# Altium schematic symbol library kmilo17pet-Maxim_Sensors.SchLib: 1172 symbols (part 43 of 61)
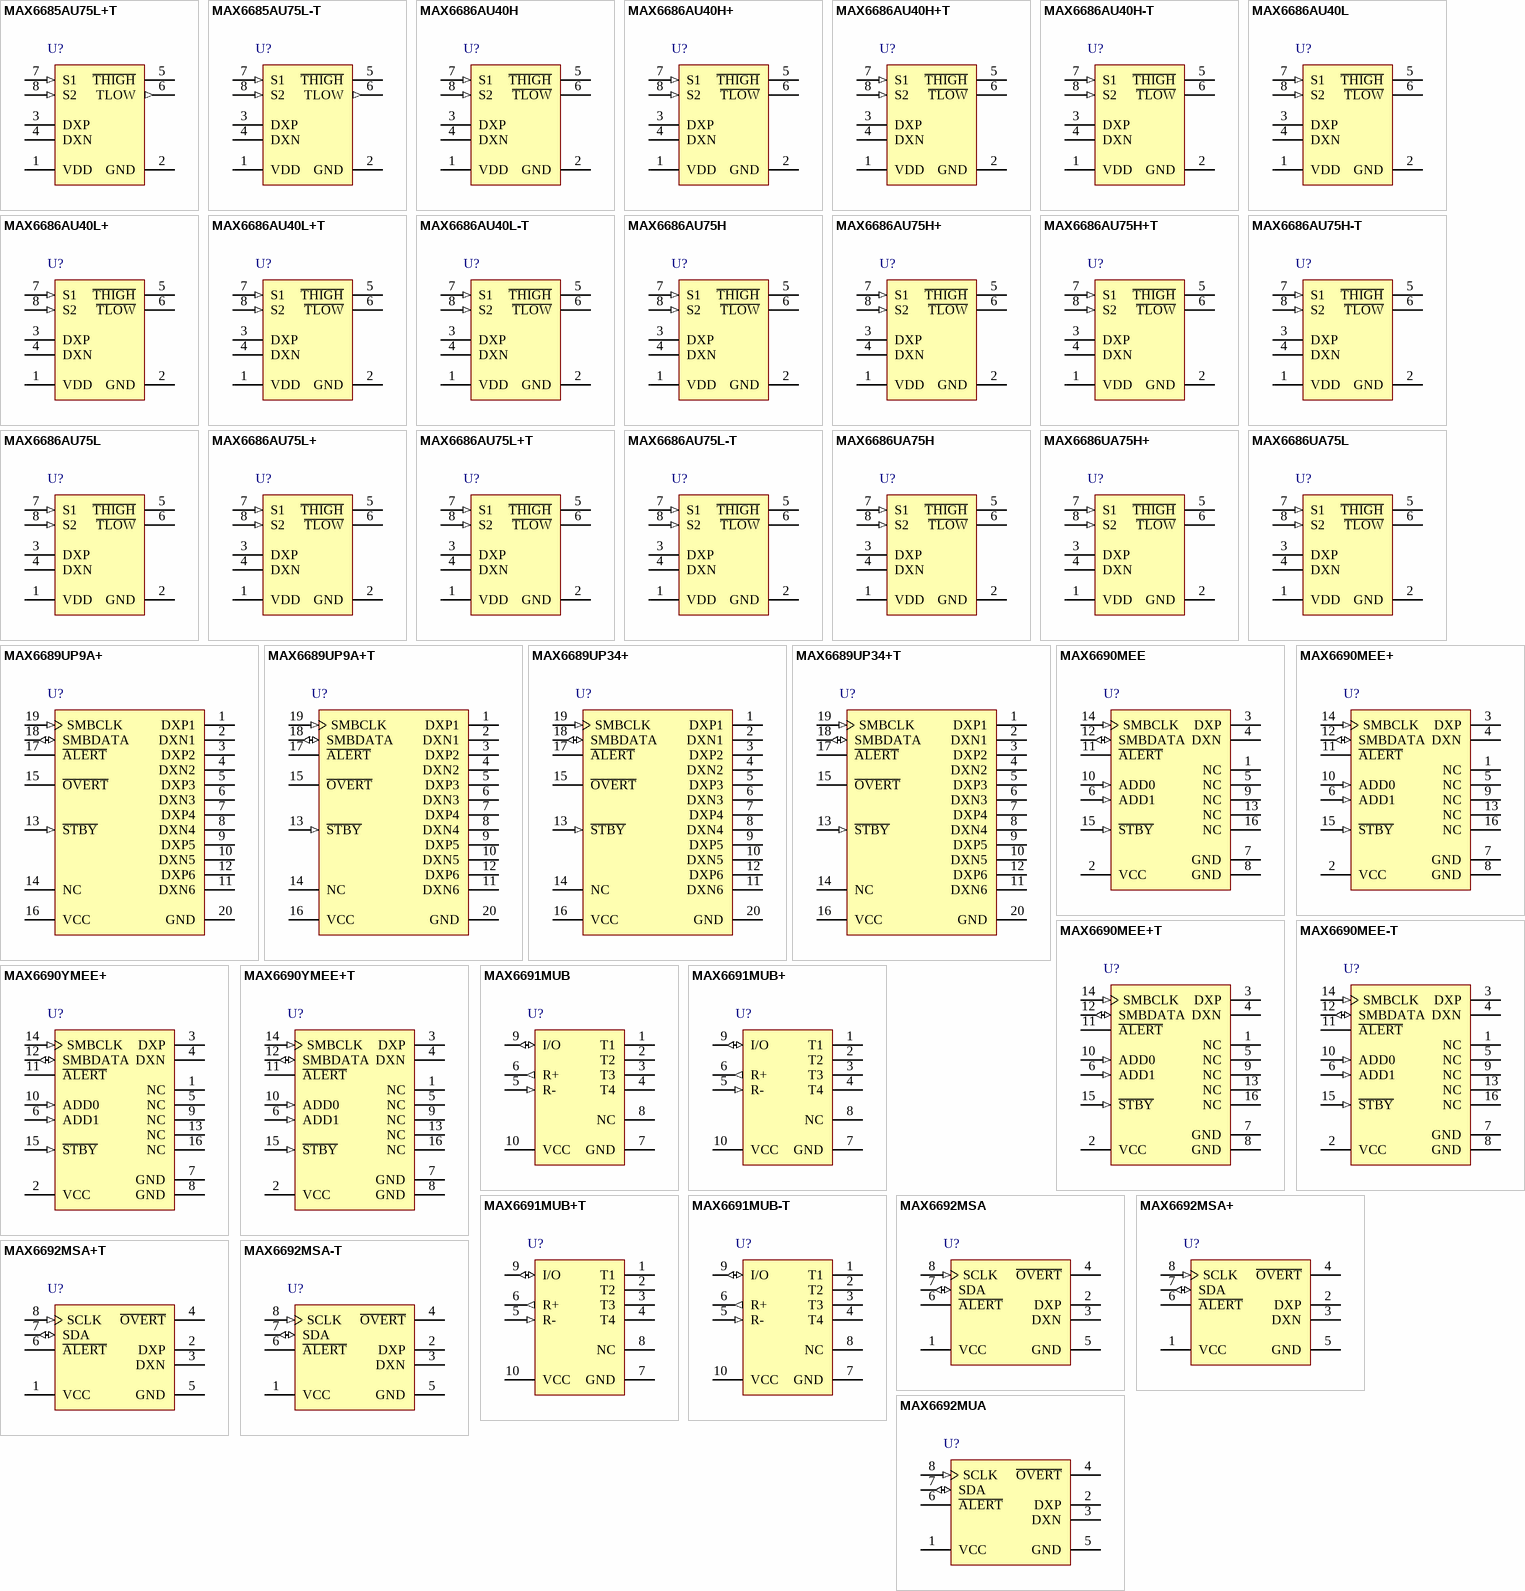
[diagram p75: symbols MAX6685AU75L+T to MAX6692MUA]

## MAX6686AU40L+T
designator U?
Dual-Output Remote-Junction Temperature Switch, -40 to 125 degC, 8-Pin SOP (U8+1), Pb-Free, Tape and Reel; Generic Part Number: MAX6686; PartNumber: MAX6686AU40L+T; Functions: Dual Output Temperature Switch; Interface: Logic; DatasheetVersion: Rev. 2; PackageVersion: Rev. L, 08/2009; PackageReference: U8+1; PackageDescription: 8-Pin Micro-MAX, Thin Shrink Small-Outline (U8+1), Body 3 x 3 mm, Pitch 0.65 mm; Supplier 1: Digi-Key; Supplier Part Number 1: MAX6686AU40L+T-ND; Supplier 2: Mouser; Supplier Part Number 2: 700-MAX6686AU40L+T; Packing: Tape and Reel; Mounting Technology: Surface Mount; Code_JEDEC: MO-187; ComponentLink1Description: Manufacturer URL; ComponentLink1URL: http://www.maximintegrated.com/; ComponentLink2Description: Datasheet; ComponentLink2URL: http://datasheets.maximintegrated.com/en/ds/MAX6686; ComponentLink3Description: Package Specification; ComponentLink3URL: http://pdfserv.maximintegrated.com/package_dwgs/21-0036.PDF
footprint MAXM-U8+1_N (SOP, 8-Leads, Body 3x3mm, Pitch 0.65mm, IPC Medium Density)
footprint MAXM-U8+1_L (SOP, 8-Leads, Body 3x3mm, Pitch 0.65mm, IPC High Density)
footprint MAXM-U8+1_M (SOP, 8-Leads, Body 3x3mm, Pitch 0.65mm, IPC Low Density)
pins: 1 VDD (power) "Power-Supply Input. Bypass to GND with a 0.1uF capacitor.", 2 GND (power) "Ground", 3 DXP "This pin connects to the positive (anode) terminal of the external P-N sense junction. It sources current into the external junction. A 2200pF capacitor should be connected across DXP and DXN.", 4 DXN "This pin connects to the negative (cathode) terminal of the external P-N sense junction. It sinks current from the external junction. A 2200pF capacitor should be connected across DXP and DXN. DXN must be connected to the (See Datasheet)", 5 ~{THIGH} (oc) "Open-Drain, Active-Low Output. T\H\I\G\H\ goes low when the temperature exceeds the factoryprogrammed upper temperature threshold, either +120degreesC or +125degreesC. Connect a pullup resistor (typically 10k ohm) between (See Datasheet)", 6 ~{TLOW} (oc) "Open-Drain, Active-Low Output. T\L\O\W\  goes LOW when the temperature exceeds the pinprogrammed lower temperature threshold. Connect a pullup resistor (typically 10k ohm) between T\L\O\W\ and a positive supply up to 5.5V", 7 S1 (in) "Threshold Select Input. Used in conjunction with S2 to set the lower threshold for TLOW (Table 1). It can be connected to VDD, GND, or left floating.", 8 S2 (in) "Threshold Select Input. Used in conjunction with S1 to set the lower threshold for TLOW (Table 1). It can be connected to VDD, GND, or left floating."

## MAX6686AU40L-T
designator U?
Dual-Output Remote-Junction Temperature Switch, -40 to 125 degC, 8-Pin SOP (U8-1), Tape and Reel; Generic Part Number: MAX6686; PartNumber: MAX6686AU40L-T; Functions: Dual Output Temperature Switch; Interface: Logic; DatasheetVersion: Rev. 2; PackageVersion: Rev. L, 08/2009; PackageReference: U8-1; PackageDescription: 8-Pin Micro-MAX, Thin Shrink Small-Outline (U8-1), Body 3 x 3 mm, Pitch 0.65mm; Supplier 1: Mouser; Supplier Part Number 1: N/A; Packing: Tape and Reel; Mounting Technology: Surface Mount; Code_JEDEC: MO-187; ComponentLink1Description: Manufacturer URL; ComponentLink1URL: http://www.maximintegrated.com/; ComponentLink2Description: Datasheet; ComponentLink2URL: http://datasheets.maximintegrated.com/en/ds/MAX6686; ComponentLink3Description: Package Specification; ComponentLink3URL: http://pdfserv.maximintegrated.com/package_dwgs/21-0036.PDF
footprint MAXM-U8-1_N (SOP, 8-Leads, Body 3x3mm, Pitch 0.65mm, IPC Medium Density)
footprint MAXM-U8-1_L (SOP, 8-Leads, Body 3x3mm, Pitch 0.65mm, IPC High Density)
footprint MAXM-U8-1_M (SOP, 8-Leads, Body 3x3mm, Pitch 0.65mm, IPC Low Density)
pins: 1 VDD (power) "Power-Supply Input. Bypass to GND with a 0.1uF capacitor.", 2 GND (power) "Ground", 3 DXP "This pin connects to the positive (anode) terminal of the external P-N sense junction. It sources current into the external junction. A 2200pF capacitor should be connected across DXP and DXN.", 4 DXN "This pin connects to the negative (cathode) terminal of the external P-N sense junction. It sinks current from the external junction. A 2200pF capacitor should be connected across DXP and DXN. DXN must be connected to the (See Datasheet)", 5 ~{THIGH} (oc) "Open-Drain, Active-Low Output. T\H\I\G\H\ goes low when the temperature exceeds the factoryprogrammed upper temperature threshold, either +120degreesC or +125degreesC. Connect a pullup resistor (typically 10k ohm) between (See Datasheet)", 6 ~{TLOW} (oc) "Open-Drain, Active-Low Output. T\L\O\W\  goes LOW when the temperature exceeds the pinprogrammed lower temperature threshold. Connect a pullup resistor (typically 10k ohm) between T\L\O\W\ and a positive supply up to 5.5V", 7 S1 (in) "Threshold Select Input. Used in conjunction with S2 to set the lower threshold for TLOW (Table 1). It can be connected to VDD, GND, or left floating.", 8 S2 (in) "Threshold Select Input. Used in conjunction with S1 to set the lower threshold for TLOW (Table 1). It can be connected to VDD, GND, or left floating."

## MAX6686AU75H
designator U?
Dual-Output Remote-Junction Temperature Switch, -40 to 125 degC, 8-Pin SOP (U8-1); Generic Part Number: MAX6686; PartNumber: MAX6686AU75H; Functions: Dual Output Temperature Switch; Interface: Logic; DatasheetVersion: Rev. 2; PackageVersion: Rev. L, 08/2009; PackageReference: U8-1; PackageDescription: 8-Pin Micro-MAX, Thin Shrink Small-Outline (U8-1), Body 3 x 3 mm, Pitch 0.65mm; Supplier 1: Mouser; Supplier Part Number 1: N/A; Mounting Technology: Surface Mount; Code_JEDEC: MO-187; ComponentLink1Description: Manufacturer URL; ComponentLink1URL: http://www.maximintegrated.com/; ComponentLink2Description: Datasheet; ComponentLink2URL: http://datasheets.maximintegrated.com/en/ds/MAX6686; ComponentLink3Description: Package Specification; ComponentLink3URL: http://pdfserv.maximintegrated.com/package_dwgs/21-0036.PDF
footprint MAXM-U8-1_N (SOP, 8-Leads, Body 3x3mm, Pitch 0.65mm, IPC Medium Density)
footprint MAXM-U8-1_L (SOP, 8-Leads, Body 3x3mm, Pitch 0.65mm, IPC High Density)
footprint MAXM-U8-1_M (SOP, 8-Leads, Body 3x3mm, Pitch 0.65mm, IPC Low Density)
pins: 1 VDD (power) "Power-Supply Input. Bypass to GND with a 0.1uF capacitor.", 2 GND (power) "Ground", 3 DXP "This pin connects to the positive (anode) terminal of the external P-N sense junction. It sources current into the external junction. A 2200pF capacitor should be connected across DXP and DXN.", 4 DXN "This pin connects to the negative (cathode) terminal of the external P-N sense junction. It sinks current from the external junction. A 2200pF capacitor should be connected across DXP and DXN. DXN must be connected to the (See Datasheet)", 5 ~{THIGH} (oc) "Open-Drain, Active-Low Output. T\H\I\G\H\ goes low when the temperature exceeds the factoryprogrammed upper temperature threshold, either +120degreesC or +125degreesC. Connect a pullup resistor (typically 10k ohm) between (See Datasheet)", 6 ~{TLOW} (oc) "Open-Drain, Active-Low Output. T\L\O\W\  goes LOW when the temperature exceeds the pinprogrammed lower temperature threshold. Connect a pullup resistor (typically 10k ohm) between T\L\O\W\ and a positive supply up to 5.5V", 7 S1 (in) "Threshold Select Input. Used in conjunction with S2 to set the lower threshold for TLOW (Table 1). It can be connected to VDD, GND, or left floating.", 8 S2 (in) "Threshold Select Input. Used in conjunction with S1 to set the lower threshold for TLOW (Table 1). It can be connected to VDD, GND, or left floating."

## MAX6686AU75H+
designator U?
Dual-Output Remote-Junction Temperature Switch, -40 to 125 degC, 8-Pin SOP (U8+1), Pb-Free; Generic Part Number: MAX6686; PartNumber: MAX6686AU75H+; Functions: Dual Output Temperature Switch; Interface: Logic; DatasheetVersion: Rev. 2; PackageVersion: Rev. L, 08/2009; PackageReference: U8+1; PackageDescription: 8-Pin Micro-MAX, Thin Shrink Small-Outline (U8+1), Body 3 x 3 mm, Pitch 0.65 mm; Supplier 1: Digi-Key; Supplier Part Number 1: MAX6686AU75H+-ND; Supplier 2: Mouser; Supplier Part Number 2: 700-MAX6686AU75H+; Mounting Technology: Surface Mount; Code_JEDEC: MO-187; ComponentLink1Description: Manufacturer URL; ComponentLink1URL: http://www.maximintegrated.com/; ComponentLink2Description: Datasheet; ComponentLink2URL: http://datasheets.maximintegrated.com/en/ds/MAX6686; ComponentLink3Description: Package Specification; ComponentLink3URL: http://pdfserv.maximintegrated.com/package_dwgs/21-0036.PDF
footprint MAXM-U8+1_N (SOP, 8-Leads, Body 3x3mm, Pitch 0.65mm, IPC Medium Density)
footprint MAXM-U8+1_L (SOP, 8-Leads, Body 3x3mm, Pitch 0.65mm, IPC High Density)
footprint MAXM-U8+1_M (SOP, 8-Leads, Body 3x3mm, Pitch 0.65mm, IPC Low Density)
pins: 1 VDD (power) "Power-Supply Input. Bypass to GND with a 0.1uF capacitor.", 2 GND (power) "Ground", 3 DXP "This pin connects to the positive (anode) terminal of the external P-N sense junction. It sources current into the external junction. A 2200pF capacitor should be connected across DXP and DXN.", 4 DXN "This pin connects to the negative (cathode) terminal of the external P-N sense junction. It sinks current from the external junction. A 2200pF capacitor should be connected across DXP and DXN. DXN must be connected to the (See Datasheet)", 5 ~{THIGH} (oc) "Open-Drain, Active-Low Output. T\H\I\G\H\ goes low when the temperature exceeds the factoryprogrammed upper temperature threshold, either +120degreesC or +125degreesC. Connect a pullup resistor (typically 10k ohm) between (See Datasheet)", 6 ~{TLOW} (oc) "Open-Drain, Active-Low Output. T\L\O\W\  goes LOW when the temperature exceeds the pinprogrammed lower temperature threshold. Connect a pullup resistor (typically 10k ohm) between T\L\O\W\ and a positive supply up to 5.5V", 7 S1 (in) "Threshold Select Input. Used in conjunction with S2 to set the lower threshold for TLOW (Table 1). It can be connected to VDD, GND, or left floating.", 8 S2 (in) "Threshold Select Input. Used in conjunction with S1 to set the lower threshold for TLOW (Table 1). It can be connected to VDD, GND, or left floating."

## MAX6686AU75H+T
designator U?
Dual-Output Remote-Junction Temperature Switch, -40 to 125 degC, 8-Pin SOP (U8+1), Pb-Free, Tape and Reel; Generic Part Number: MAX6686; PartNumber: MAX6686AU75H+T; Functions: Dual Output Temperature Switch; Interface: Logic; DatasheetVersion: Rev. 2; PackageVersion: Rev. L, 08/2009; PackageReference: U8+1; PackageDescription: 8-Pin Micro-MAX, Thin Shrink Small-Outline (U8+1), Body 3 x 3 mm, Pitch 0.65 mm; Supplier 1: Digi-Key; Supplier Part Number 1: MAX6686AU75H+T-ND; Supplier 2: Mouser; Supplier Part Number 2: 700-MAX6686AU75H+T; Packing: Tape and Reel; Mounting Technology: Surface Mount; Code_JEDEC: MO-187; ComponentLink1Description: Manufacturer URL; ComponentLink1URL: http://www.maximintegrated.com/; ComponentLink2Description: Datasheet; ComponentLink2URL: http://datasheets.maximintegrated.com/en/ds/MAX6686; ComponentLink3Description: Package Specification; ComponentLink3URL: http://pdfserv.maximintegrated.com/package_dwgs/21-0036.PDF
footprint MAXM-U8+1_N (SOP, 8-Leads, Body 3x3mm, Pitch 0.65mm, IPC Medium Density)
footprint MAXM-U8+1_L (SOP, 8-Leads, Body 3x3mm, Pitch 0.65mm, IPC High Density)
footprint MAXM-U8+1_M (SOP, 8-Leads, Body 3x3mm, Pitch 0.65mm, IPC Low Density)
pins: 1 VDD (power) "Power-Supply Input. Bypass to GND with a 0.1uF capacitor.", 2 GND (power) "Ground", 3 DXP "This pin connects to the positive (anode) terminal of the external P-N sense junction. It sources current into the external junction. A 2200pF capacitor should be connected across DXP and DXN.", 4 DXN "This pin connects to the negative (cathode) terminal of the external P-N sense junction. It sinks current from the external junction. A 2200pF capacitor should be connected across DXP and DXN. DXN must be connected to the (See Datasheet)", 5 ~{THIGH} (oc) "Open-Drain, Active-Low Output. T\H\I\G\H\ goes low when the temperature exceeds the factoryprogrammed upper temperature threshold, either +120degreesC or +125degreesC. Connect a pullup resistor (typically 10k ohm) between (See Datasheet)", 6 ~{TLOW} (oc) "Open-Drain, Active-Low Output. T\L\O\W\  goes LOW when the temperature exceeds the pinprogrammed lower temperature threshold. Connect a pullup resistor (typically 10k ohm) between T\L\O\W\ and a positive supply up to 5.5V", 7 S1 (in) "Threshold Select Input. Used in conjunction with S2 to set the lower threshold for TLOW (Table 1). It can be connected to VDD, GND, or left floating.", 8 S2 (in) "Threshold Select Input. Used in conjunction with S1 to set the lower threshold for TLOW (Table 1). It can be connected to VDD, GND, or left floating."

## MAX6686AU75H-T
designator U?
Dual-Output Remote-Junction Temperature Switch, -40 to 125 degC, 8-Pin SOP (U8-1), Tape and Reel; Generic Part Number: MAX6686; PartNumber: MAX6686AU75H-T; Functions: Dual Output Temperature Switch; Interface: Logic; DatasheetVersion: Rev. 2; PackageVersion: Rev. L, 08/2009; PackageReference: U8-1; PackageDescription: 8-Pin Micro-MAX, Thin Shrink Small-Outline (U8-1), Body 3 x 3 mm, Pitch 0.65mm; Supplier 1: Mouser; Supplier Part Number 1: N/A; Packing: Tape and Reel; Mounting Technology: Surface Mount; Code_JEDEC: MO-187; ComponentLink1Description: Manufacturer URL; ComponentLink1URL: http://www.maximintegrated.com/; ComponentLink2Description: Datasheet; ComponentLink2URL: http://datasheets.maximintegrated.com/en/ds/MAX6686; ComponentLink3Description: Package Specification; ComponentLink3URL: http://pdfserv.maximintegrated.com/package_dwgs/21-0036.PDF
footprint MAXM-U8-1_N (SOP, 8-Leads, Body 3x3mm, Pitch 0.65mm, IPC Medium Density)
footprint MAXM-U8-1_L (SOP, 8-Leads, Body 3x3mm, Pitch 0.65mm, IPC High Density)
footprint MAXM-U8-1_M (SOP, 8-Leads, Body 3x3mm, Pitch 0.65mm, IPC Low Density)
pins: 1 VDD (power) "Power-Supply Input. Bypass to GND with a 0.1uF capacitor.", 2 GND (power) "Ground", 3 DXP "This pin connects to the positive (anode) terminal of the external P-N sense junction. It sources current into the external junction. A 2200pF capacitor should be connected across DXP and DXN.", 4 DXN "This pin connects to the negative (cathode) terminal of the external P-N sense junction. It sinks current from the external junction. A 2200pF capacitor should be connected across DXP and DXN. DXN must be connected to the (See Datasheet)", 5 ~{THIGH} (oc) "Open-Drain, Active-Low Output. T\H\I\G\H\ goes low when the temperature exceeds the factoryprogrammed upper temperature threshold, either +120degreesC or +125degreesC. Connect a pullup resistor (typically 10k ohm) between (See Datasheet)", 6 ~{TLOW} (oc) "Open-Drain, Active-Low Output. T\L\O\W\  goes LOW when the temperature exceeds the pinprogrammed lower temperature threshold. Connect a pullup resistor (typically 10k ohm) between T\L\O\W\ and a positive supply up to 5.5V", 7 S1 (in) "Threshold Select Input. Used in conjunction with S2 to set the lower threshold for TLOW (Table 1). It can be connected to VDD, GND, or left floating.", 8 S2 (in) "Threshold Select Input. Used in conjunction with S1 to set the lower threshold for TLOW (Table 1). It can be connected to VDD, GND, or left floating."

## MAX6686AU75L
designator U?
Dual-Output Remote-Junction Temperature Switch, -40 to 125 degC, 8-Pin SOP (U8-1); Generic Part Number: MAX6686; PartNumber: MAX6686AU75L; Functions: Dual Output Temperature Switch; Interface: Logic; DatasheetVersion: Rev. 2; PackageVersion: Rev. L, 08/2009; PackageReference: U8-1; PackageDescription: 8-Pin Micro-MAX, Thin Shrink Small-Outline (U8-1), Body 3 x 3 mm, Pitch 0.65mm; Supplier 1: Mouser; Supplier Part Number 1: N/A; Mounting Technology: Surface Mount; Code_JEDEC: MO-187; ComponentLink1Description: Manufacturer URL; ComponentLink1URL: http://www.maximintegrated.com/; ComponentLink2Description: Datasheet; ComponentLink2URL: http://datasheets.maximintegrated.com/en/ds/MAX6686; ComponentLink3Description: Package Specification; ComponentLink3URL: http://pdfserv.maximintegrated.com/package_dwgs/21-0036.PDF
footprint MAXM-U8-1_N (SOP, 8-Leads, Body 3x3mm, Pitch 0.65mm, IPC Medium Density)
footprint MAXM-U8-1_L (SOP, 8-Leads, Body 3x3mm, Pitch 0.65mm, IPC High Density)
footprint MAXM-U8-1_M (SOP, 8-Leads, Body 3x3mm, Pitch 0.65mm, IPC Low Density)
pins: 1 VDD (power) "Power-Supply Input. Bypass to GND with a 0.1uF capacitor.", 2 GND (power) "Ground", 3 DXP "This pin connects to the positive (anode) terminal of the external P-N sense junction. It sources current into the external junction. A 2200pF capacitor should be connected across DXP and DXN.", 4 DXN "This pin connects to the negative (cathode) terminal of the external P-N sense junction. It sinks current from the external junction. A 2200pF capacitor should be connected across DXP and DXN. DXN must be connected to the (See Datasheet)", 5 ~{THIGH} (oc) "Open-Drain, Active-Low Output. T\H\I\G\H\ goes low when the temperature exceeds the factoryprogrammed upper temperature threshold, either +120degreesC or +125degreesC. Connect a pullup resistor (typically 10k ohm) between (See Datasheet)", 6 ~{TLOW} (oc) "Open-Drain, Active-Low Output. T\L\O\W\  goes LOW when the temperature exceeds the pinprogrammed lower temperature threshold. Connect a pullup resistor (typically 10k ohm) between T\L\O\W\ and a positive supply up to 5.5V", 7 S1 (in) "Threshold Select Input. Used in conjunction with S2 to set the lower threshold for TLOW (Table 1). It can be connected to VDD, GND, or left floating.", 8 S2 (in) "Threshold Select Input. Used in conjunction with S1 to set the lower threshold for TLOW (Table 1). It can be connected to VDD, GND, or left floating."

## MAX6686AU75L+
designator U?
Dual-Output Remote-Junction Temperature Switch, -40 to 125 degC, 8-Pin SOP (U8+1), Pb-Free; Generic Part Number: MAX6686; PartNumber: MAX6686AU75L+; Functions: Dual Output Temperature Switch; Interface: Logic; DatasheetVersion: Rev. 2; PackageVersion: Rev. L, 08/2009; PackageReference: U8+1; PackageDescription: 8-Pin Micro-MAX, Thin Shrink Small-Outline (U8+1), Body 3 x 3 mm, Pitch 0.65 mm; Supplier 1: Digi-Key; Supplier Part Number 1: MAX6686AU75L+-ND; Supplier 2: Mouser; Supplier Part Number 2: 700-MAX6686AU75L+; Mounting Technology: Surface Mount; Code_JEDEC: MO-187; ComponentLink1Description: Manufacturer URL; ComponentLink1URL: http://www.maximintegrated.com/; ComponentLink2Description: Datasheet; ComponentLink2URL: http://datasheets.maximintegrated.com/en/ds/MAX6686; ComponentLink3Description: Package Specification; ComponentLink3URL: http://pdfserv.maximintegrated.com/package_dwgs/21-0036.PDF
footprint MAXM-U8+1_N (SOP, 8-Leads, Body 3x3mm, Pitch 0.65mm, IPC Medium Density)
footprint MAXM-U8+1_L (SOP, 8-Leads, Body 3x3mm, Pitch 0.65mm, IPC High Density)
footprint MAXM-U8+1_M (SOP, 8-Leads, Body 3x3mm, Pitch 0.65mm, IPC Low Density)
pins: 1 VDD (power) "Power-Supply Input. Bypass to GND with a 0.1uF capacitor.", 2 GND (power) "Ground", 3 DXP "This pin connects to the positive (anode) terminal of the external P-N sense junction. It sources current into the external junction. A 2200pF capacitor should be connected across DXP and DXN.", 4 DXN "This pin connects to the negative (cathode) terminal of the external P-N sense junction. It sinks current from the external junction. A 2200pF capacitor should be connected across DXP and DXN. DXN must be connected to the (See Datasheet)", 5 ~{THIGH} (oc) "Open-Drain, Active-Low Output. T\H\I\G\H\ goes low when the temperature exceeds the factoryprogrammed upper temperature threshold, either +120degreesC or +125degreesC. Connect a pullup resistor (typically 10k ohm) between (See Datasheet)", 6 ~{TLOW} (oc) "Open-Drain, Active-Low Output. T\L\O\W\  goes LOW when the temperature exceeds the pinprogrammed lower temperature threshold. Connect a pullup resistor (typically 10k ohm) between T\L\O\W\ and a positive supply up to 5.5V", 7 S1 (in) "Threshold Select Input. Used in conjunction with S2 to set the lower threshold for TLOW (Table 1). It can be connected to VDD, GND, or left floating.", 8 S2 (in) "Threshold Select Input. Used in conjunction with S1 to set the lower threshold for TLOW (Table 1). It can be connected to VDD, GND, or left floating."

## MAX6686AU75L+T
designator U?
Dual-Output Remote-Junction Temperature Switch, -40 to 125 degC, 8-Pin SOP (U8+1), Pb-Free, Tape and Reel; Generic Part Number: MAX6686; PartNumber: MAX6686AU75L+T; Functions: Dual Output Temperature Switch; Interface: Logic; DatasheetVersion: Rev. 2; PackageVersion: Rev. L, 08/2009; PackageReference: U8+1; PackageDescription: 8-Pin Micro-MAX, Thin Shrink Small-Outline (U8+1), Body 3 x 3 mm, Pitch 0.65 mm; Supplier 1: Digi-Key; Supplier Part Number 1: MAX6686AU75L+T-ND; Supplier 2: Mouser; Supplier Part Number 2: 700-MAX6686AU75L+T; Packing: Tape and Reel; Mounting Technology: Surface Mount; Code_JEDEC: MO-187; ComponentLink1Description: Manufacturer URL; ComponentLink1URL: http://www.maximintegrated.com/; ComponentLink2Description: Datasheet; ComponentLink2URL: http://datasheets.maximintegrated.com/en/ds/MAX6686; ComponentLink3Description: Package Specification; ComponentLink3URL: http://pdfserv.maximintegrated.com/package_dwgs/21-0036.PDF
footprint MAXM-U8+1_N (SOP, 8-Leads, Body 3x3mm, Pitch 0.65mm, IPC Medium Density)
footprint MAXM-U8+1_L (SOP, 8-Leads, Body 3x3mm, Pitch 0.65mm, IPC High Density)
footprint MAXM-U8+1_M (SOP, 8-Leads, Body 3x3mm, Pitch 0.65mm, IPC Low Density)
pins: 1 VDD (power) "Power-Supply Input. Bypass to GND with a 0.1uF capacitor.", 2 GND (power) "Ground", 3 DXP "This pin connects to the positive (anode) terminal of the external P-N sense junction. It sources current into the external junction. A 2200pF capacitor should be connected across DXP and DXN.", 4 DXN "This pin connects to the negative (cathode) terminal of the external P-N sense junction. It sinks current from the external junction. A 2200pF capacitor should be connected across DXP and DXN. DXN must be connected to the (See Datasheet)", 5 ~{THIGH} (oc) "Open-Drain, Active-Low Output. T\H\I\G\H\ goes low when the temperature exceeds the factoryprogrammed upper temperature threshold, either +120degreesC or +125degreesC. Connect a pullup resistor (typically 10k ohm) between (See Datasheet)", 6 ~{TLOW} (oc) "Open-Drain, Active-Low Output. T\L\O\W\  goes LOW when the temperature exceeds the pinprogrammed lower temperature threshold. Connect a pullup resistor (typically 10k ohm) between T\L\O\W\ and a positive supply up to 5.5V", 7 S1 (in) "Threshold Select Input. Used in conjunction with S2 to set the lower threshold for TLOW (Table 1). It can be connected to VDD, GND, or left floating.", 8 S2 (in) "Threshold Select Input. Used in conjunction with S1 to set the lower threshold for TLOW (Table 1). It can be connected to VDD, GND, or left floating."

## MAX6686AU75L-T
designator U?
Dual-Output Remote-Junction Temperature Switch, -40 to 125 degC, 8-Pin SOP (U8-1), Tape and Reel; Generic Part Number: MAX6686; PartNumber: MAX6686AU75L-T; Functions: Dual Output Temperature Switch; Interface: Logic; DatasheetVersion: Rev. 2; PackageVersion: Rev. L, 08/2009; PackageReference: U8-1; PackageDescription: 8-Pin Micro-MAX, Thin Shrink Small-Outline (U8-1), Body 3 x 3 mm, Pitch 0.65mm; Supplier 1: Mouser; Supplier Part Number 1: N/A; Packing: Tape and Reel; Mounting Technology: Surface Mount; Code_JEDEC: MO-187; ComponentLink1Description: Manufacturer URL; ComponentLink1URL: http://www.maximintegrated.com/; ComponentLink2Description: Datasheet; ComponentLink2URL: http://datasheets.maximintegrated.com/en/ds/MAX6686; ComponentLink3Description: Package Specification; ComponentLink3URL: http://pdfserv.maximintegrated.com/package_dwgs/21-0036.PDF
footprint MAXM-U8-1_N (SOP, 8-Leads, Body 3x3mm, Pitch 0.65mm, IPC Medium Density)
footprint MAXM-U8-1_L (SOP, 8-Leads, Body 3x3mm, Pitch 0.65mm, IPC High Density)
footprint MAXM-U8-1_M (SOP, 8-Leads, Body 3x3mm, Pitch 0.65mm, IPC Low Density)
pins: 1 VDD (power) "Power-Supply Input. Bypass to GND with a 0.1uF capacitor.", 2 GND (power) "Ground", 3 DXP "This pin connects to the positive (anode) terminal of the external P-N sense junction. It sources current into the external junction. A 2200pF capacitor should be connected across DXP and DXN.", 4 DXN "This pin connects to the negative (cathode) terminal of the external P-N sense junction. It sinks current from the external junction. A 2200pF capacitor should be connected across DXP and DXN. DXN must be connected to the (See Datasheet)", 5 ~{THIGH} (oc) "Open-Drain, Active-Low Output. T\H\I\G\H\ goes low when the temperature exceeds the factoryprogrammed upper temperature threshold, either +120degreesC or +125degreesC. Connect a pullup resistor (typically 10k ohm) between (See Datasheet)", 6 ~{TLOW} (oc) "Open-Drain, Active-Low Output. T\L\O\W\  goes LOW when the temperature exceeds the pinprogrammed lower temperature threshold. Connect a pullup resistor (typically 10k ohm) between T\L\O\W\ and a positive supply up to 5.5V", 7 S1 (in) "Threshold Select Input. Used in conjunction with S2 to set the lower threshold for TLOW (Table 1). It can be connected to VDD, GND, or left floating.", 8 S2 (in) "Threshold Select Input. Used in conjunction with S1 to set the lower threshold for TLOW (Table 1). It can be connected to VDD, GND, or left floating."

## MAX6686UA75H
designator U?
Dual-Output Remote-Junction Temperature Switch, -40 to 125 degC, 8-Pin SOP (U8-1); Generic Part Number: MAX6686; PartNumber: MAX6686UA75H; Functions: Dual Output Temperature Switch; Interface: Logic; DatasheetVersion: Rev. 2; PackageVersion: Rev. L, 08/2009; PackageReference: U8-1; PackageDescription: 8-Pin Micro-MAX, Thin Shrink Small-Outline (U8-1), Body 3 x 3 mm, Pitch 0.65mm; Supplier 1: Mouser; Supplier Part Number 1: N/A; Mounting Technology: Surface Mount; Code_JEDEC: MO-187; ComponentLink1Description: Manufacturer URL; ComponentLink1URL: http://www.maximintegrated.com/; ComponentLink2Description: Datasheet; ComponentLink2URL: http://datasheets.maximintegrated.com/en/ds/MAX6686; ComponentLink3Description: Package Specification; ComponentLink3URL: http://pdfserv.maximintegrated.com/package_dwgs/21-0036.PDF
footprint MAXM-U8-1_N (SOP, 8-Leads, Body 3x3mm, Pitch 0.65mm, IPC Medium Density)
footprint MAXM-U8-1_L (SOP, 8-Leads, Body 3x3mm, Pitch 0.65mm, IPC High Density)
footprint MAXM-U8-1_M (SOP, 8-Leads, Body 3x3mm, Pitch 0.65mm, IPC Low Density)
pins: 1 VDD (power) "Power-Supply Input. Bypass to GND with a 0.1uF capacitor.", 2 GND (power) "Ground", 3 DXP "This pin connects to the positive (anode) terminal of the external P-N sense junction. It sources current into the external junction. A 2200pF capacitor should be connected across DXP and DXN.", 4 DXN "This pin connects to the negative (cathode) terminal of the external P-N sense junction. It sinks current from the external junction. A 2200pF capacitor should be connected across DXP and DXN. DXN must be connected to the (See Datasheet)", 5 ~{THIGH} (oc) "Open-Drain, Active-Low Output. T\H\I\G\H\ goes low when the temperature exceeds the factoryprogrammed upper temperature threshold, either +120degreesC or +125degreesC. Connect a pullup resistor (typically 10k ohm) between (See Datasheet)", 6 ~{TLOW} (oc) "Open-Drain, Active-Low Output. T\L\O\W\  goes LOW when the temperature exceeds the pinprogrammed lower temperature threshold. Connect a pullup resistor (typically 10k ohm) between T\L\O\W\ and a positive supply up to 5.5V", 7 S1 (in) "Threshold Select Input. Used in conjunction with S2 to set the lower threshold for TLOW (Table 1). It can be connected to VDD, GND, or left floating.", 8 S2 (in) "Threshold Select Input. Used in conjunction with S1 to set the lower threshold for TLOW (Table 1). It can be connected to VDD, GND, or left floating."

## MAX6686UA75H+
designator U?
Dual-Output Remote-Junction Temperature Switch, -40 to 125 degC, 8-Pin SOP (U8+1), Pb-Free; Generic Part Number: MAX6686; PartNumber: MAX6686UA75H+; Functions: Dual Output Temperature Switch; Interface: Logic; DatasheetVersion: Rev. 2; PackageVersion: Rev. L, 08/2009; PackageReference: U8+1; PackageDescription: 8-Pin Micro-MAX, Thin Shrink Small-Outline (U8+1), Body 3 x 3 mm, Pitch 0.65 mm; Supplier 1: Digi-Key; Supplier Part Number 1: MAX6686UA75H+-ND; Supplier 2: Mouser; Supplier Part Number 2: 700-MAX6686UA75H+; Mounting Technology: Surface Mount; Code_JEDEC: MO-187; ComponentLink1Description: Manufacturer URL; ComponentLink1URL: http://www.maximintegrated.com/; ComponentLink2Description: Datasheet; ComponentLink2URL: http://datasheets.maximintegrated.com/en/ds/MAX6686; ComponentLink3Description: Package Specification; ComponentLink3URL: http://pdfserv.maximintegrated.com/package_dwgs/21-0036.PDF
footprint MAXM-U8+1_N (SOP, 8-Leads, Body 3x3mm, Pitch 0.65mm, IPC Medium Density)
footprint MAXM-U8+1_L (SOP, 8-Leads, Body 3x3mm, Pitch 0.65mm, IPC High Density)
footprint MAXM-U8+1_M (SOP, 8-Leads, Body 3x3mm, Pitch 0.65mm, IPC Low Density)
pins: 1 VDD (power) "Power-Supply Input. Bypass to GND with a 0.1uF capacitor.", 2 GND (power) "Ground", 3 DXP "This pin connects to the positive (anode) terminal of the external P-N sense junction. It sources current into the external junction. A 2200pF capacitor should be connected across DXP and DXN.", 4 DXN "This pin connects to the negative (cathode) terminal of the external P-N sense junction. It sinks current from the external junction. A 2200pF capacitor should be connected across DXP and DXN. DXN must be connected to the (See Datasheet)", 5 ~{THIGH} (oc) "Open-Drain, Active-Low Output. T\H\I\G\H\ goes low when the temperature exceeds the factoryprogrammed upper temperature threshold, either +120degreesC or +125degreesC. Connect a pullup resistor (typically 10k ohm) between (See Datasheet)", 6 ~{TLOW} (oc) "Open-Drain, Active-Low Output. T\L\O\W\  goes LOW when the temperature exceeds the pinprogrammed lower temperature threshold. Connect a pullup resistor (typically 10k ohm) between T\L\O\W\ and a positive supply up to 5.5V", 7 S1 (in) "Threshold Select Input. Used in conjunction with S2 to set the lower threshold for TLOW (Table 1). It can be connected to VDD, GND, or left floating.", 8 S2 (in) "Threshold Select Input. Used in conjunction with S1 to set the lower threshold for TLOW (Table 1). It can be connected to VDD, GND, or left floating."

## MAX6686UA75L
designator U?
Dual-Output Remote-Junction Temperature Switch, -40 to 125 degC, 8-Pin SOP (U8-1); Generic Part Number: MAX6686; PartNumber: MAX6686UA75L; Functions: Dual Output Temperature Switch; Interface: Logic; DatasheetVersion: Rev. 2; PackageVersion: Rev. L, 08/2009; PackageReference: U8-1; PackageDescription: 8-Pin Micro-MAX, Thin Shrink Small-Outline (U8-1), Body 3 x 3 mm, Pitch 0.65mm; Supplier 1: Mouser; Supplier Part Number 1: N/A; Mounting Technology: Surface Mount; Code_JEDEC: MO-187; ComponentLink1Description: Manufacturer URL; ComponentLink1URL: http://www.maximintegrated.com/; ComponentLink2Description: Datasheet; ComponentLink2URL: http://datasheets.maximintegrated.com/en/ds/MAX6686; ComponentLink3Description: Package Specification; ComponentLink3URL: http://pdfserv.maximintegrated.com/package_dwgs/21-0036.PDF
footprint MAXM-U8-1_N (SOP, 8-Leads, Body 3x3mm, Pitch 0.65mm, IPC Medium Density)
footprint MAXM-U8-1_L (SOP, 8-Leads, Body 3x3mm, Pitch 0.65mm, IPC High Density)
footprint MAXM-U8-1_M (SOP, 8-Leads, Body 3x3mm, Pitch 0.65mm, IPC Low Density)
pins: 1 VDD (power) "Power-Supply Input. Bypass to GND with a 0.1uF capacitor.", 2 GND (power) "Ground", 3 DXP "This pin connects to the positive (anode) terminal of the external P-N sense junction. It sources current into the external junction. A 2200pF capacitor should be connected across DXP and DXN.", 4 DXN "This pin connects to the negative (cathode) terminal of the external P-N sense junction. It sinks current from the external junction. A 2200pF capacitor should be connected across DXP and DXN. DXN must be connected to the (See Datasheet)", 5 ~{THIGH} (oc) "Open-Drain, Active-Low Output. T\H\I\G\H\ goes low when the temperature exceeds the factoryprogrammed upper temperature threshold, either +120degreesC or +125degreesC. Connect a pullup resistor (typically 10k ohm) between (See Datasheet)", 6 ~{TLOW} (oc) "Open-Drain, Active-Low Output. T\L\O\W\  goes LOW when the temperature exceeds the pinprogrammed lower temperature threshold. Connect a pullup resistor (typically 10k ohm) between T\L\O\W\ and a positive supply up to 5.5V", 7 S1 (in) "Threshold Select Input. Used in conjunction with S2 to set the lower threshold for TLOW (Table 1). It can be connected to VDD, GND, or left floating.", 8 S2 (in) "Threshold Select Input. Used in conjunction with S1 to set the lower threshold for TLOW (Table 1). It can be connected to VDD, GND, or left floating."

## MAX6689UP9A+
designator U?
Seven-Channel Temperature Monitor, 11 Bits Temperature Resolution, -40 to 125 degC, 20-Pin SOP (U20+2), Pb-Free; Generic Part Number: MAX6689; PartNumber: MAX6689UP9A+; Alarm Output: Alert, Overt; Functions: Dual Temperature Alarms, Multi-Channel Temperature Monitor ,Remote & Local Sensor; Interface: 2-Wire/I2C/SMBus; Parasite Pwr.: No; DatasheetVersion: Rev. 1; PackageVersion: Rev. L, 07/2010; PackageReference: U20+2; PackageDescription: 20-Pin Thin Shrink Small-Outline Package, Body 4.4 x 6.5 mm, Pitch 0.65 mm; Supplier 1: Digi-Key; Supplier Part Number 1: MAX6689UP9A+-ND; Supplier 2: Farnell; Supplier Part Number 2: 1433254; Supplier 3: Mouser; Supplier Part Number 3: 700-MAX6689UP9A; Mounting Technology: Surface Mount; Code_JEDEC: MO-153; ComponentLink1Description: Manufacturer URL; ComponentLink1URL: http://www.maximintegrated.com/; ComponentLink2Description: Datasheet; ComponentLink2URL: http://datasheets.maximintegrated.com/en/ds/MAX6689.pdf; ComponentLink3Description: Package Specification; ComponentLink3URL: http://pdfserv.maximintegrated.com/package_dwgs/21-0066.PDF
footprint MAXM-U20+2_N (SOP, 20-Leads, Body 6.5x4.4mm, Pitch 0.65mm, IPC Medium Density)
footprint MAXM-U20+2_L (SOP, 20-Leads, Body 6.5x4.4mm, Pitch 0.65mm, IPC High Density)
footprint MAXM-U20+2_M (SOP, 20-Leads, Body 6.5x4.4mm, Pitch 0.65mm, IPC Low Density)
pins: 1 DXP1 "Combined Current Source and A/D Positive Input for Channel 1 Remote Diode. Connect to the anode of a remote-diode-connected temperature-sensing transistor. Leave floating or connect to VCC if no remote diode is used. Place a (See Datasheet)", 2 DXN1 "Cathode Input for Channel 1 Remote Diode. Connect the cathode of the channel 1 remote-diode-connected transistor to DXN1. Internally connected to GND.", 3 DXP2 "Combined Current Source and A/D Positive Input for Channel 2 Remote Diode. Connect to the anode of a remote-diode-connected temperature-sensing transistor. Leave floating or connect to VCC if no remote diode is used. Place a (See Datasheet)", 4 DXN2 "Cathode Input for Channel 2 Remote Diode. Connect the cathode of the channel 2 remote-diode-connected transistor to DXN2.", 5 DXP3 "Combined Current Source and A/D Positive Input for Channel 3 Remote Diode. Connect to the anode of a remote-diode-connected temperature-sensing transistor. Leave floating or connect to VCC if no remote diode is used. Place a (See Datasheet)", 6 DXN3 "Cathode Input for Channel 3 Remote Diode. Connect the cathode of the channel 3 remote-diode-connected transistor to DXN3.", 7 DXP4 "Combined Current Source and A/D Positive Input for Channel 4 Remote Diode. Connect to the anode of a remote-diode-connected temperature-sensing transistor. Leave floating or connect to VCC if no remote diode is used. Place a (See Datasheet)", 8 DXN4 "Cathode Input for Channel 4 Remote Diode. Connect the cathode of the channel 4 remote-diode-connected transistor to DXN4.", 9 DXP5 "Combined Current Source and A/D Positive Input for Channel 5 Remote Diode. Connect to the anode of a remote-diode-connected temperature-sensing transistor. Leave floating or connect to VCC if no remote diode is used. Place a (See Datasheet)", 10 DXN5 "Cathode Input for Channel 5 Remote Diode. Connect the cathode of the channel 5 remote-diode-connected transistor to DXN5.", 11 DXN6 "Cathode Input for Channel 6 Remote Diode. Connect the cathode of the channel 6 remote-diode-connected transistor to DXN6.", 12 DXP6 "Combined Current Source and A/D Positive Input for Channel 6 Remote Diode. Connect to the anode of a remote-diode-connected temperature-sensing transistor. Leave floating or connect to VCC if no remote diode is used. Place a (See Datasheet)", 13 ~{STBY} (in) "Active-Low Standby Input. Drive S\T\B\Y\ logic-low to place the MAX6636 in standby mode, or logic-high for operate mode. Temperature and threshold data are retained in standby mode.", 14 NC "No Connection. Must be connected to ground.", 15 ~{OVERT} (oc) "Overtemperature Active-Low, Open-Drain Output. O\V\E\R\T\ asserts low when the temperature of channels 1, 4, 5, and 6 exceeds the programmed threshold limit.", 16 VCC (power) "Supply Voltage Input. Bypass to GND with a 0.1µF capacitor.", 17 ~{ALERT} (oc) "SMBus Alert (Interrupt), Active-Low, Open-Drain Output. A\L\E\R\T\ asserts low when the temperature of any channel exceeds the programmed A\L\E\R\T\ threshold.", 18 SMBDATA (io) "SMBus Serial-Data Input/Output. Connect to a pullup resistor.", 19 SMBCLK (in) "SMBus Serial-Clock Input. Connect to a pullup resistor.", 20 GND (power) "Ground"

## MAX6689UP9A+T
designator U?
Seven-Channel Temperature Monitor, 11 Bits Temperature Resolution, -40 to 125 degC, 20-Pin SOP (U20+2), Pb-Free, Tape and Reel; Generic Part Number: MAX6689; PartNumber: MAX6689UP9A+T; Alarm Output: Alert, Overt; Functions: Dual Temperature Alarms, Multi-Channel Temperature Monitor ,Remote & Local Sensor; Interface: 2-Wire/I2C/SMBus; Parasite Pwr.: No; DatasheetVersion: Rev. 1; PackageVersion: Rev. L, 07/2010; PackageReference: U20+2; PackageDescription: 20-Pin Thin Shrink Small-Outline Package, Body 4.4 x 6.5 mm, Pitch 0.65 mm; Supplier 1: Digi-Key; Supplier Part Number 1: MAX6689UP9A+T-ND; Supplier 2: Mouser; Supplier Part Number 2: 700-MAX6689UP9AT; Packing: Tape and Reel; Mounting Technology: Surface Mount; Code_JEDEC: MO-153; ComponentLink1Description: Manufacturer URL; ComponentLink1URL: http://www.maximintegrated.com/; ComponentLink2Description: Datasheet; ComponentLink2URL: http://datasheets.maximintegrated.com/en/ds/MAX6689.pdf; ComponentLink3Description: Package Specification; ComponentLink3URL: http://pdfserv.maximintegrated.com/package_dwgs/21-0066.PDF
footprint MAXM-U20+2_N (SOP, 20-Leads, Body 6.5x4.4mm, Pitch 0.65mm, IPC Medium Density)
footprint MAXM-U20+2_L (SOP, 20-Leads, Body 6.5x4.4mm, Pitch 0.65mm, IPC High Density)
footprint MAXM-U20+2_M (SOP, 20-Leads, Body 6.5x4.4mm, Pitch 0.65mm, IPC Low Density)
pins: 1 DXP1 "Combined Current Source and A/D Positive Input for Channel 1 Remote Diode. Connect to the anode of a remote-diode-connected temperature-sensing transistor. Leave floating or connect to VCC if no remote diode is used. Place a (See Datasheet)", 2 DXN1 "Cathode Input for Channel 1 Remote Diode. Connect the cathode of the channel 1 remote-diode-connected transistor to DXN1. Internally connected to GND.", 3 DXP2 "Combined Current Source and A/D Positive Input for Channel 2 Remote Diode. Connect to the anode of a remote-diode-connected temperature-sensing transistor. Leave floating or connect to VCC if no remote diode is used. Place a (See Datasheet)", 4 DXN2 "Cathode Input for Channel 2 Remote Diode. Connect the cathode of the channel 2 remote-diode-connected transistor to DXN2.", 5 DXP3 "Combined Current Source and A/D Positive Input for Channel 3 Remote Diode. Connect to the anode of a remote-diode-connected temperature-sensing transistor. Leave floating or connect to VCC if no remote diode is used. Place a (See Datasheet)", 6 DXN3 "Cathode Input for Channel 3 Remote Diode. Connect the cathode of the channel 3 remote-diode-connected transistor to DXN3.", 7 DXP4 "Combined Current Source and A/D Positive Input for Channel 4 Remote Diode. Connect to the anode of a remote-diode-connected temperature-sensing transistor. Leave floating or connect to VCC if no remote diode is used. Place a (See Datasheet)", 8 DXN4 "Cathode Input for Channel 4 Remote Diode. Connect the cathode of the channel 4 remote-diode-connected transistor to DXN4.", 9 DXP5 "Combined Current Source and A/D Positive Input for Channel 5 Remote Diode. Connect to the anode of a remote-diode-connected temperature-sensing transistor. Leave floating or connect to VCC if no remote diode is used. Place a (See Datasheet)", 10 DXN5 "Cathode Input for Channel 5 Remote Diode. Connect the cathode of the channel 5 remote-diode-connected transistor to DXN5.", 11 DXN6 "Cathode Input for Channel 6 Remote Diode. Connect the cathode of the channel 6 remote-diode-connected transistor to DXN6.", 12 DXP6 "Combined Current Source and A/D Positive Input for Channel 6 Remote Diode. Connect to the anode of a remote-diode-connected temperature-sensing transistor. Leave floating or connect to VCC if no remote diode is used. Place a (See Datasheet)", 13 ~{STBY} (in) "Active-Low Standby Input. Drive S\T\B\Y\ logic-low to place the MAX6636 in standby mode, or logic-high for operate mode. Temperature and threshold data are retained in standby mode.", 14 NC "No Connection. Must be connected to ground.", 15 ~{OVERT} (oc) "Overtemperature Active-Low, Open-Drain Output. O\V\E\R\T\ asserts low when the temperature of channels 1, 4, 5, and 6 exceeds the programmed threshold limit.", 16 VCC (power) "Supply Voltage Input. Bypass to GND with a 0.1µF capacitor.", 17 ~{ALERT} (oc) "SMBus Alert (Interrupt), Active-Low, Open-Drain Output. A\L\E\R\T\ asserts low when the temperature of any channel exceeds the programmed A\L\E\R\T\ threshold.", 18 SMBDATA (io) "SMBus Serial-Data Input/Output. Connect to a pullup resistor.", 19 SMBCLK (in) "SMBus Serial-Clock Input. Connect to a pullup resistor.", 20 GND (power) "Ground"

## MAX6689UP34+
designator U?
Seven-Channel Temperature Monitor, 11 Bits Temperature Resolution, -40 to 125 degC, 20-Pin SOP (U20+2), Pb-Free,; Generic Part Number: MAX6689; PartNumber: MAX6689UP34+; Alarm Output: Alert, Overt; Functions: Dual Temperature Alarms, Multi-Channel Temperature Monitor ,Remote & Local Sensor; Interface: 2-Wire/I2C/SMBus; Parasite Pwr.: No; DatasheetVersion: Rev. 1; PackageVersion: Rev. L, 07/2010; PackageReference: U20+2; PackageDescription: 20-Pin Thin Shrink Small-Outline Package, Body 4.4 x 6.5 mm, Pitch 0.65 mm; Supplier 1: Digi-Key; Supplier Part Number 1: MAX6689UP34+-ND; Supplier 2: Mouser; Supplier Part Number 2: 700-MAX6689UP34; Mounting Technology: Surface Mount; Code_JEDEC: MO-153; ComponentLink1Description: Manufacturer URL; ComponentLink1URL: http://www.maximintegrated.com/; ComponentLink2Description: Datasheet; ComponentLink2URL: http://datasheets.maximintegrated.com/en/ds/MAX6689.pdf; ComponentLink3Description: Package Specification; ComponentLink3URL: http://pdfserv.maximintegrated.com/package_dwgs/21-0066.PDF
footprint MAXM-U20+2_N (SOP, 20-Leads, Body 6.5x4.4mm, Pitch 0.65mm, IPC Medium Density)
footprint MAXM-U20+2_L (SOP, 20-Leads, Body 6.5x4.4mm, Pitch 0.65mm, IPC High Density)
footprint MAXM-U20+2_M (SOP, 20-Leads, Body 6.5x4.4mm, Pitch 0.65mm, IPC Low Density)
pins: 1 DXP1 "Combined Current Source and A/D Positive Input for Channel 1 Remote Diode. Connect to the anode of a remote-diode-connected temperature-sensing transistor. Leave floating or connect to VCC if no remote diode is used. Place a (See Datasheet)", 2 DXN1 "Cathode Input for Channel 1 Remote Diode. Connect the cathode of the channel 1 remote-diode-connected transistor to DXN1. Internally connected to GND.", 3 DXP2 "Combined Current Source and A/D Positive Input for Channel 2 Remote Diode. Connect to the anode of a remote-diode-connected temperature-sensing transistor. Leave floating or connect to VCC if no remote diode is used. Place a (See Datasheet)", 4 DXN2 "Cathode Input for Channel 2 Remote Diode. Connect the cathode of the channel 2 remote-diode-connected transistor to DXN2.", 5 DXP3 "Combined Current Source and A/D Positive Input for Channel 3 Remote Diode. Connect to the anode of a remote-diode-connected temperature-sensing transistor. Leave floating or connect to VCC if no remote diode is used. Place a (See Datasheet)", 6 DXN3 "Cathode Input for Channel 3 Remote Diode. Connect the cathode of the channel 3 remote-diode-connected transistor to DXN3.", 7 DXP4 "Combined Current Source and A/D Positive Input for Channel 4 Remote Diode. Connect to the anode of a remote-diode-connected temperature-sensing transistor. Leave floating or connect to VCC if no remote diode is used. Place a (See Datasheet)", 8 DXN4 "Cathode Input for Channel 4 Remote Diode. Connect the cathode of the channel 4 remote-diode-connected transistor to DXN4.", 9 DXP5 "Combined Current Source and A/D Positive Input for Channel 5 Remote Diode. Connect to the anode of a remote-diode-connected temperature-sensing transistor. Leave floating or connect to VCC if no remote diode is used. Place a (See Datasheet)", 10 DXN5 "Cathode Input for Channel 5 Remote Diode. Connect the cathode of the channel 5 remote-diode-connected transistor to DXN5.", 11 DXN6 "Cathode Input for Channel 6 Remote Diode. Connect the cathode of the channel 6 remote-diode-connected transistor to DXN6.", 12 DXP6 "Combined Current Source and A/D Positive Input for Channel 6 Remote Diode. Connect to the anode of a remote-diode-connected temperature-sensing transistor. Leave floating or connect to VCC if no remote diode is used. Place a (See Datasheet)", 13 ~{STBY} (in) "Active-Low Standby Input. Drive S\T\B\Y\ logic-low to place the MAX6636 in standby mode, or logic-high for operate mode. Temperature and threshold data are retained in standby mode.", 14 NC "No Connection. Must be connected to ground.", 15 ~{OVERT} (oc) "Overtemperature Active-Low, Open-Drain Output. O\V\E\R\T\ asserts low when the temperature of channels 1, 4, 5, and 6 exceeds the programmed threshold limit.", 16 VCC (power) "Supply Voltage Input. Bypass to GND with a 0.1µF capacitor.", 17 ~{ALERT} (oc) "SMBus Alert (Interrupt), Active-Low, Open-Drain Output. A\L\E\R\T\ asserts low when the temperature of any channel exceeds the programmed A\L\E\R\T\ threshold.", 18 SMBDATA (io) "SMBus Serial-Data Input/Output. Connect to a pullup resistor.", 19 SMBCLK (in) "SMBus Serial-Clock Input. Connect to a pullup resistor.", 20 GND (power) "Ground"